# EAGLE library part BQ4845 (library Custom)
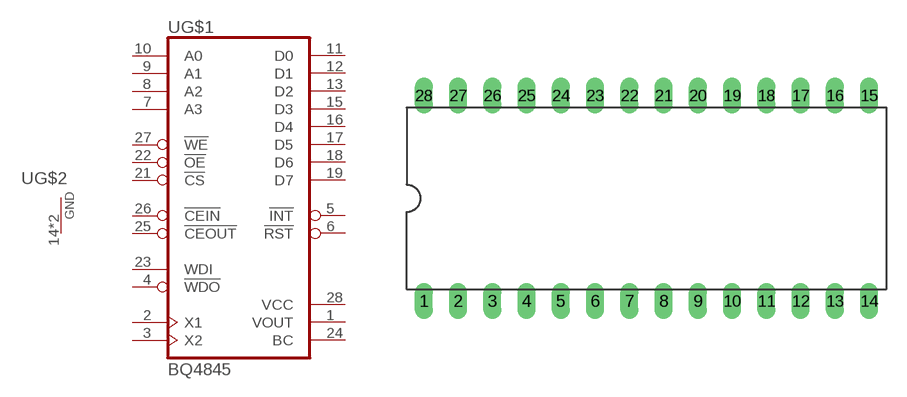
[diagram p14: symbol with the pads of DIL28; footprint DIL28]

Designator prefix U; gates G$1=BQ4845 G$2=GNDN

## BQ4845  [DIL28]
1  G$1:VOUT  in
2  G$1:X1  in
3  G$1:X2  in
4  G$1:!WDO  out
5  G$1:!INT  oc
6  G$1:!RST  oc
7  G$1:A3  in
8  G$1:A2  in
9  G$1:A1  in
10  G$1:A0  in
11  G$1:D0  hiz
12  G$1:D1  hiz
13  G$1:D2  hiz
14  G$2:GND  pwr
15  G$1:D3  hiz
16  G$1:D4  hiz
17  G$1:D5  hiz
18  G$1:D6  hiz
19  G$1:D7  hiz
20  G$2:GND  pwr
21  G$1:!CS  in
22  G$1:!OE  in
23  G$1:WDI  in
24  G$1:BC  in
25  G$1:!CEOUT  out
26  G$1:!CEIN  in
27  G$1:!WE  in
28  G$1:VCC  in

## Footprint DIL28 (pad centres in mm)
Dual In Line Package
drill 0.813 long: 1 -16.51,-7.62; 2 -13.97,-7.62; 3 -11.43,-7.62; 4 -8.89,-7.62; 5 -6.35,-7.62; 6 -3.81,-7.62; 7 -1.27,-7.62; 8 1.27,-7.62; 9 3.81,-7.62; 10 6.35,-7.62; 11 8.89,-7.62; 12 11.43,-7.62; 13 13.97,-7.62; 14 16.51,-7.62; 15 16.51,7.62; 16 13.97,7.62; 17 11.43,7.62; 18 8.89,7.62; 19 6.35,7.62; 20 3.81,7.62; 21 1.27,7.62; 22 -1.27,7.62; 23 -3.81,7.62; 24 -6.35,7.62; 25 -8.89,7.62; 26 -11.43,7.62; 27 -13.97,7.62; 28 -16.51,7.62